# EAGLE library part 62684-401100ALF (library conn)
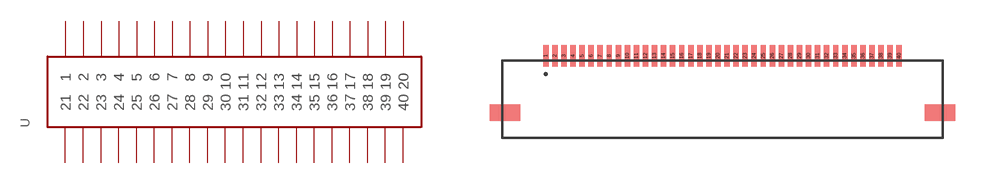
[diagram p0: symbol with the pads of 62684-401100ALF; footprint 62684-401100ALF]

Designator prefix -

## 62684-401100ALF  [62684-401100ALF]
1  1
2  2
3  3
4  4
5  5
6  6
7  7
8  8
9  9
10  10
11  11
12  12
13  13
14  14
15  15
16  16
17  17
18  18
19  19
20  20
21  21
22  22
23  23
24  24
25  25
26  26
27  27
28  28
29  29
30  30
31  31
32  32
33  33
34  34
35  35
36  36
37  37
38  38
39  39
40  40

## Footprint 62684-401100ALF (pad centres in mm)
CONN FPC/FFC 40POS .5MM R/A SMD Part number 609-1195-1-ND from DigiKey
smd 0.3 x 1.2: 1 -9.75,2; 2 -9.25,2; 3 -8.75,2; 4 -8.25,2; 5 -7.75,2; 6 -7.25,2; 7 -6.75,2; 8 -6.25,2; 9 -5.75,2; 10 -5.25,2; 11 -4.75,2; 12 -4.25,2; 13 -3.75,2; 14 -3.25,2; 15 -2.75,2; 16 -2.25,2; 17 -1.75,2; 18 -1.25,2; 19 -0.75,2; 20 -0.25,2; 21 0.25,2; 22 0.75,2; 23 1.25,2; 24 1.75,2; 25 2.25,2; 26 2.75,2; 27 3.25,2; 28 3.75,2; 29 4.25,2; 30 4.75,2; 31 5.25,2; 32 5.75,2; 33 6.25,2; 34 6.75,2; 35 7.25,2; 36 7.75,2; 37 8.25,2; 38 8.75,2; 39 9.25,2; 40 9.75,2